# Altium footprint library con-cypressindustries.PCBLIB: 27 footprints (part 2 of 2)
Each footprint in its own frame and in the unit in brackets; x right, y up, seen from the top. Pads: shape width x height; smd on the part's side, far side on the other; paste and mask are expansions set on the pad; w line width, h text height; cw(c..) or ccw(c..) is an arc to the next point about the centre after c.
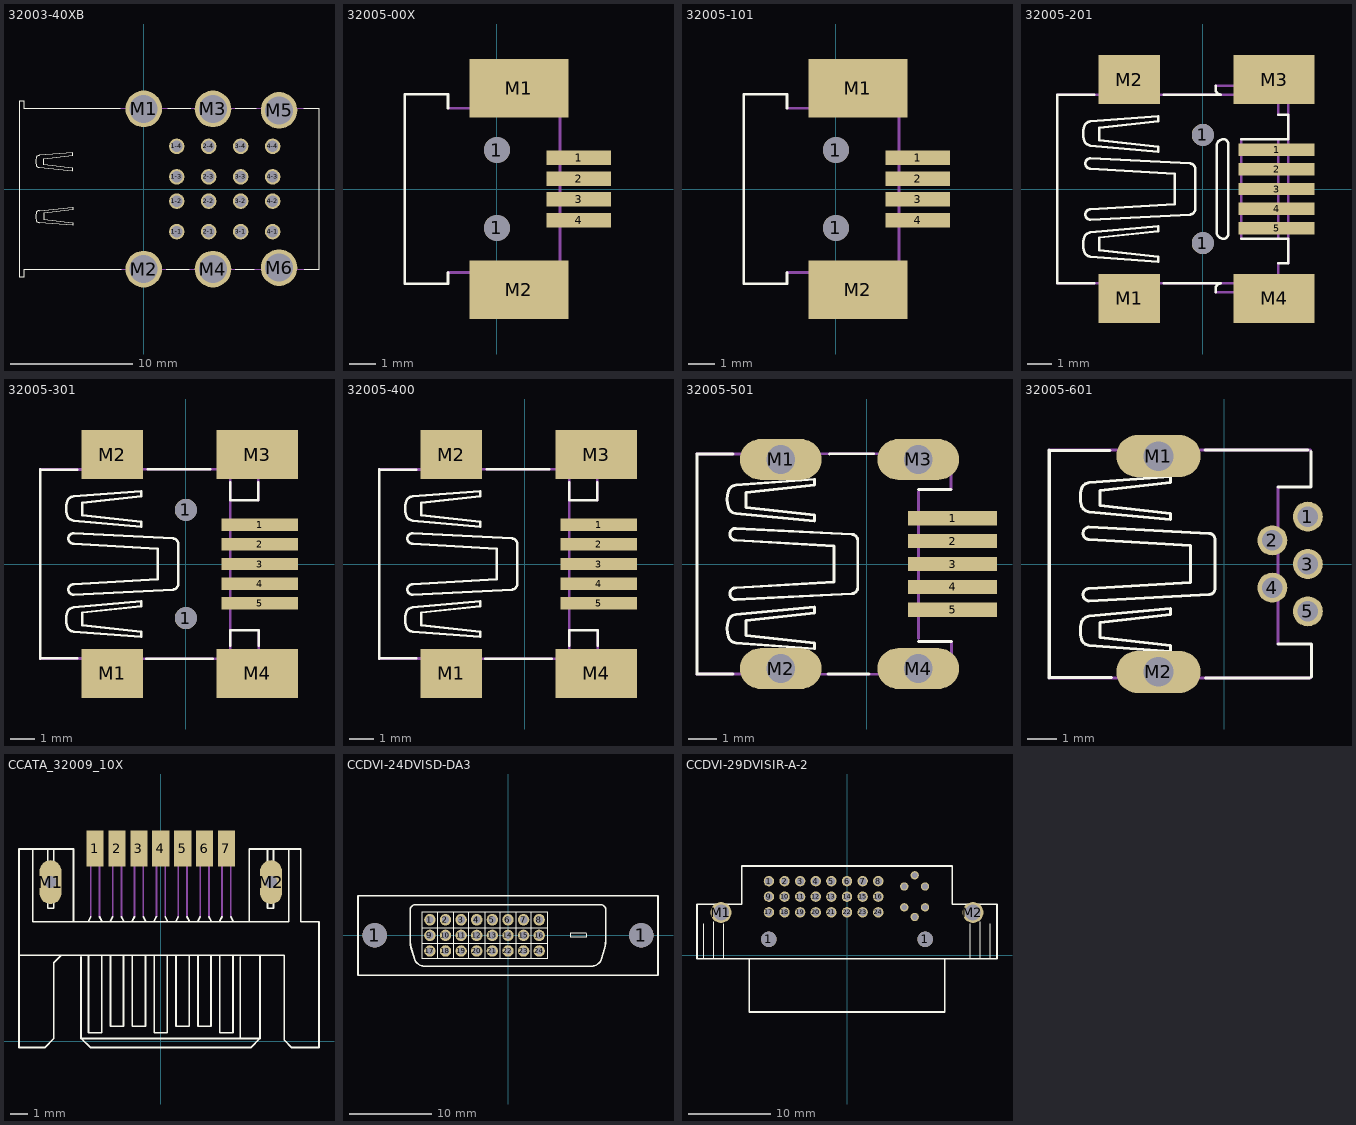
[diagram p1: the footprints below, top view; thin cyan lines are the x and y axes]

## 32003-40XB [mm]
pads (22):
  round 1.27 hole 0.92: 1-1(2.71,-3.5) 1-2(2.71,-1) 1-3(2.71,1) 1-4(2.71,3.5) 2-1(5.33,-3.5) 2-2(5.33,-1) 2-3(5.33,1) 2-4(5.33,3.5) 3-1(7.95,-3.5) 3-2(7.95,-1) 3-3(7.95,1) 3-4(7.95,3.5) 4-1(10.57,-3.5) 4-2(10.57,-1) 4-3(10.57,1) 4-4(10.57,3.5)
  round 3 hole 2.3: M1(0,6.57) M2(0,-6.57) M3(5.68,6.57) M4(5.68,-6.57) M5(11.1,6.45) M6(11.1,-6.45)
Top Overlay:
  lines w0.102: -1.925,6.6 -9.775,6.6 -9.775,7.2 -10.225,7.2 -10.225,-7.2 -9.775,-7.2 -9.775,-6.6 -1.825,-6.6 ; 1.85,-6.6 3.75,-6.6 ; 1.975,6.6 3.85,6.6 ; 7.5,-6.6 9.075,-6.6 ; 7.5,6.6 9.225,6.6 ; 13.125,6.6 14.375,6.6 14.375,-6.6 13.15,-6.6 ; -8.828,-2.544 ccw(c-8.546,-2.457) -8.568,-2.751 -5.817,-2.959 -5.817,-2.751 -8.205,-2.492 -8.205,-1.973 -5.817,-1.713 -5.817,-1.505 -8.568,-1.765 ccw(c-8.546,-2.059) -8.828,-1.973 ccw(c-7.897,-2.258) -8.828,-2.544 ; -8.828,1.973 cw(c-7.897,2.258) -8.828,2.544 cw(c-8.546,2.457) -8.568,2.751 -5.817,2.959 -5.817,2.751 -8.205,2.492 -8.205,1.973 -5.817,1.713 -5.817,1.505 -8.568,1.765 cw(c-8.546,2.059) -8.828,1.973
Mechanical 16:
  lines w0.102: -1.925,6.6 1.975,6.6 ; -1.825,-6.6 1.85,-6.6 ; 3.75,-6.6 7.5,-6.6 ; 3.85,6.6 7.5,6.6 ; 9.075,-6.6 13.15,-6.6 ; 9.225,6.6 13.125,6.6

## 32005-00X [mm]
pads (8):
  round 1 hole 1: 1(0,-1.5) 1(0,1.5)
  rect 2.5x0.55 smd: 1(3.15,1.2) 2(3.15,0.4) 3(3.15,-0.4) 4(3.15,-1.2)
  rect 3.8x2.25 smd: M1(0.85,3.875) M2(0.85,-3.875)
Top Overlay:
  lines w0.102: -1.886,-3.213 -1.886,-3.643 -3.546,-3.643 -3.546,3.643 -1.886,3.643 -1.886,3.113
Mechanical 16:
  region: 2.425,1.4 2.425,1 4,1 4,1.4
  region: 2.45,0.6 2.45,0.2 4,0.2 4,0.6
  region: 2.45,-0.2 2.45,-0.6 4,-0.6 4,-0.2
  region: 2.475,-1 2.475,-1.4 4,-1.4 4,-1
  lines w0.102: -1.832,-3.214 -0.466,-3.214 ; -1.832,3.107 -0.479,3.107 ; 0.23,-3.234 0.23,-3.911 1.463,-3.911 1.463,-3.234 ; 0.23,3.134 0.23,3.911 1.463,3.911 1.463,3.134 ; 2.429,-3.214 -0.466,-3.214 ; -0.479,3.107 -0.479,4.447 2.266,4.447 2.266,3.107 ; -0.479,3.107 2.266,3.107 ; -0.466,-3.214 -0.466,-4.447 2.266,-4.447 2.266,-3.207 2.427,-3.207 2.427,3.107 2.266,3.107

## 32005-101 [mm]
pads (8):
  round 1 hole 1: 1(0,-1.5) 1(0,1.5)
  rect 2.5x0.55 smd: 1(3.15,1.2) 2(3.15,0.4) 3(3.15,-0.4) 4(3.15,-1.2)
  rect 3.8x2.25 smd: M1(0.85,3.875) M2(0.85,-3.875)
Top Overlay:
  lines w0.102: -1.886,-3.213 -1.886,-3.643 -3.546,-3.643 -3.546,3.643 -1.886,3.643 -1.886,3.113
Mechanical 16:
  region: 2.425,1.4 2.425,1 4,1 4,1.4
  region: 2.45,0.6 2.45,0.2 4,0.2 4,0.6
  region: 2.45,-0.2 2.45,-0.6 4,-0.6 4,-0.2
  region: 2.475,-1 2.475,-1.4 4,-1.4 4,-1
  lines w0.102: -1.832,-3.214 -0.466,-3.214 ; -1.832,3.107 -0.479,3.107 ; 0.23,-3.234 0.23,-3.911 1.463,-3.911 1.463,-3.234 ; 0.23,3.134 0.23,3.911 1.463,3.911 1.463,3.134 ; 2.429,-3.214 -0.466,-3.214 ; -0.479,3.107 -0.479,4.447 2.266,4.447 2.266,3.107 ; -0.479,3.107 2.266,3.107 ; -0.466,-3.214 -0.466,-4.447 2.266,-4.447 2.266,-3.207 2.427,-3.207 2.427,3.107 2.266,3.107

## 32005-201 [mm]
pads (11):
  round 0.9 hole 0.9: 1(0,-2.2) 1(0,2.2)
  rect 3.1x0.5 smd: 1(3,1.6) 2(3,0.8) 3(3,0) 4(3,-0.8) 5(3,-1.6)
  rect 2.5x2 smd: M1(-3,-4.45) M2(-3,4.45)
  rect 3.3x2 smd: M3(2.9,4.45) M4(2.9,-4.45)
Top Overlay:
  lines w0.102: -4.415,-3.841 -5.918,-3.841 ; -4.415,3.841 -5.918,3.841 -5.918,-3.841 ; -1.583,-3.841 0.727,-3.841 ccw(c0.727,-4.049) 0.519,-4.049 0.519,-4.205 ; -1.582,3.841 0.727,3.841 cw(c0.727,4.049) 0.519,4.049 0.519,4.205 ; 1.557,-2.025 3.426,-2.025 ; 1.557,2.025 3.426,2.025 ; 3.063,-3.011 3.426,-3.011 ; 3.063,3.011 3.426,3.011 ; 3.478,-3.011 3.478,-2.024 ; 3.478,2.025 3.478,3.011 ; -5.918,-3.841 -5.918,-3.841 ; 0.831,2.025 cw(c0.831,1.817) 1.038,1.817 1.038,-1.817 cw(c0.831,-1.817) 0.831,-2.024 cw(c0.831,-1.765) 0.571,-1.765 0.571,1.765 cw(c0.831,1.765) 0.83,2.025 ; 0.831,2.025 0.83,2.025 ; -4.828,-2.544 ccw(c-4.546,-2.457) -4.568,-2.751 -1.817,-2.959 -1.817,-2.751 -4.205,-2.492 -4.205,-1.973 -1.817,-1.713 -1.817,-1.505 -4.568,-1.765 ccw(c-4.546,-2.059) -4.828,-1.973 ccw(c-3.897,-2.258) -4.828,-2.544 ; -4.828,1.973 cw(c-3.897,2.258) -4.828,2.544 cw(c-4.546,2.457) -4.568,2.751 -1.817,2.959 -1.817,2.751 -4.205,2.492 -4.205,1.973 -1.817,1.713 -1.817,1.505 -4.568,1.765 cw(c-4.546,2.059) -4.828,1.973 ; -4.776,-1.038 ccw(c-4.569,-1.038) -4.568,-1.246 -0.519,-1.038 ccw(c-0.531,-0.818) -0.312,-0.83 -0.312,0.831 ccw(c-0.531,0.819) -0.519,1.038 -4.568,1.246 ccw(c-4.569,1.038) -4.776,1.038 -4.776,1.038 ccw(c-4.569,1.038) -4.568,0.831 -1.142,0.623 -1.142,-0.623 -4.568,-0.83 ccw(c-4.568,-1.038) -4.776,-1.038
Mechanical 16:
  lines w0.102: -5.918,-3.841 -3.688,-3.841 -3.688,-4.88 -3.325,-4.88 -3.325,-4.464 -2.702,-4.464 -2.702,-4.88 -2.309,-4.88 -2.309,-3.841 2.803,-3.841 ccw(c2.803,-3.582) 3.063,-3.582 3.063,-3.011 ; -5.918,3.841 -3.688,3.841 -3.688,4.88 -3.325,4.88 -3.325,4.465 -2.702,4.465 -2.702,4.88 -2.309,4.88 -2.309,3.841 0.726,3.841 2.803,3.841 cw(c2.803,3.582) 3.063,3.582 3.063,3.011 ; 0.519,-4.205 2.907,-4.205 ccw(c2.907,-3.634) 3.478,-3.634 ; 0.519,4.205 2.907,4.205 cw(c2.907,3.634) 3.478,3.634 3.478,-3.011 ; 1.557,-1.973 1.557,2.025 ; 1.713,-4.257 1.713,-4.88 2.128,-4.88 2.128,-4.464 2.647,-4.464 2.647,-4.88 3.063,-4.88 3.063,-4.257 ; 1.713,4.257 1.713,4.88 2.128,4.88 2.128,4.465 2.647,4.465 2.647,4.88 3.063,4.88 3.063,4.257 ; 3.063,-1.973 3.063,1.973

## 32005-301 [mm]
pads (11):
  round 0.9 hole 0.9: 1(0,-2.2) 1(0,2.2)
  rect 3.1x0.5 smd: 1(3,1.6) 2(3,0.8) 3(3,0) 4(3,-0.8) 5(3,-1.6)
  rect 2.5x2 smd: M1(-3,-4.45) M2(-3,4.45)
  rect 3.3x2 smd: M3(2.9,4.45) M4(2.9,-4.45)
Top Overlay:
  lines w0.102: -5.923,-3.847 -5.923,3.847 ; -4.415,-3.841 -5.918,-3.841 ; -4.415,3.841 -5.918,3.841 -5.918,-3.841 ; -1.603,-3.847 1.084,-3.847 ; -1.552,3.847 0.983,3.847 ; 1.81,-3.324 1.81,-2.7 2.957,-2.7 2.957,-3.332 ; 1.81,3.324 1.81,2.599 2.94,2.599 2.94,3.324 ; -5.918,-3.841 -5.918,-3.841 ; -4.828,-2.544 ccw(c-4.546,-2.457) -4.568,-2.751 -1.817,-2.959 -1.817,-2.751 -4.205,-2.492 -4.205,-1.973 -1.817,-1.713 -1.817,-1.505 -4.568,-1.765 ccw(c-4.546,-2.059) -4.828,-1.973 ccw(c-3.897,-2.258) -4.828,-2.544 ; -4.828,1.973 cw(c-3.897,2.258) -4.828,2.544 cw(c-4.546,2.457) -4.568,2.751 -1.817,2.959 -1.817,2.751 -4.205,2.492 -4.205,1.973 -1.817,1.713 -1.817,1.505 -4.568,1.765 cw(c-4.546,2.059) -4.828,1.973 ; -4.776,-1.038 ccw(c-4.569,-1.038) -4.568,-1.246 -0.519,-1.038 ccw(c-0.531,-0.818) -0.312,-0.83 -0.312,0.831 ccw(c-0.531,0.819) -0.519,1.038 -4.568,1.246 ccw(c-4.569,1.038) -4.776,1.038 -4.776,1.038 ccw(c-4.569,1.038) -4.568,0.831 -1.142,0.623 -1.142,-0.623 -4.568,-0.83 ccw(c-4.568,-1.038) -4.776,-1.038
Mechanical 16:
  lines w0.102: -5.923,-3.847 3.16,-3.847 ; -5.923,3.847 3.16,3.847 ; -5.918,-3.841 -3.688,-3.841 -3.688,-4.88 -3.325,-4.88 -3.325,-4.464 -2.702,-4.464 -2.702,-4.88 -2.309,-4.88 -2.309,-3.841 ; -5.918,3.841 -3.688,3.841 -3.688,4.88 -3.325,4.88 -3.325,4.465 -2.702,4.465 -2.702,4.88 -2.309,4.88 -2.309,3.841 ; 1.713,-3.885 1.713,-4.88 2.128,-4.88 2.128,-4.464 2.647,-4.464 2.647,-4.88 3.163,-4.88 3.163,-3.852 ; 1.713,3.886 1.713,4.88 2.128,4.88 2.128,4.465 2.647,4.465 2.647,4.88 3.164,4.88 3.164,3.852 ; 1.81,-3.847 1.81,3.78 ; 2.94,2.599 2.94,3.797 ; 2.957,-3.822 2.957,-2.7

## 32005-400 [mm]
pads (9):
  rect 3.1x0.5 smd: 1(3,1.6) 2(3,0.8) 3(3,0) 4(3,-0.8) 5(3,-1.6)
  rect 2.5x2 smd: M1(-3,-4.45) M2(-3,4.45)
  rect 3.3x2 smd: M3(2.9,4.45) M4(2.9,-4.45)
Top Overlay:
  lines w0.102: -5.923,-3.847 -5.923,3.847 ; -4.415,-3.841 -5.918,-3.841 ; -4.415,3.841 -5.918,3.841 -5.918,-3.841 ; -1.603,-3.847 1.084,-3.847 ; -1.552,3.847 0.983,3.847 ; 1.81,-3.324 1.81,-2.7 2.957,-2.7 2.957,-3.332 ; 1.81,3.324 1.81,2.599 2.94,2.599 2.94,3.324 ; -5.918,-3.841 -5.918,-3.841 ; -4.828,-2.544 ccw(c-4.546,-2.457) -4.568,-2.751 -1.817,-2.959 -1.817,-2.751 -4.205,-2.492 -4.205,-1.973 -1.817,-1.713 -1.817,-1.505 -4.568,-1.765 ccw(c-4.546,-2.059) -4.828,-1.973 ccw(c-3.897,-2.258) -4.828,-2.544 ; -4.828,1.973 cw(c-3.897,2.258) -4.828,2.544 cw(c-4.546,2.457) -4.568,2.751 -1.817,2.959 -1.817,2.751 -4.205,2.492 -4.205,1.973 -1.817,1.713 -1.817,1.505 -4.568,1.765 cw(c-4.546,2.059) -4.828,1.973 ; -4.776,-1.038 ccw(c-4.569,-1.038) -4.568,-1.246 -0.519,-1.038 ccw(c-0.531,-0.818) -0.312,-0.83 -0.312,0.831 ccw(c-0.531,0.819) -0.519,1.038 -4.568,1.246 ccw(c-4.569,1.038) -4.776,1.038 -4.776,1.038 ccw(c-4.569,1.038) -4.568,0.831 -1.142,0.623 -1.142,-0.623 -4.568,-0.83 ccw(c-4.568,-1.038) -4.776,-1.038
Mechanical 16:
  lines w0.102: -5.923,-3.847 3.16,-3.847 ; -5.923,3.847 3.16,3.847 ; -5.918,-3.841 -3.688,-3.841 -3.688,-4.88 -3.325,-4.88 -3.325,-4.464 -2.702,-4.464 -2.702,-4.88 -2.309,-4.88 -2.309,-3.841 ; -5.918,3.841 -3.688,3.841 -3.688,4.88 -3.325,4.88 -3.325,4.465 -2.702,4.465 -2.702,4.88 -2.309,4.88 -2.309,3.841 ; 1.713,-3.885 1.713,-4.88 2.128,-4.88 2.128,-4.464 2.647,-4.464 2.647,-4.88 3.163,-4.88 3.163,-3.852 ; 1.713,3.886 1.713,4.88 2.128,4.88 2.128,4.465 2.647,4.465 2.647,4.88 3.164,4.88 3.164,3.852 ; 1.81,-3.847 1.81,3.78 ; 2.94,2.599 2.94,3.797 ; 2.957,-3.822 2.957,-2.7

## 32005-501 [mm]
pads (9):
  rect 3.1x0.5 smd: 1(3,1.6) 2(3,0.8) 3(3,0) 4(3,-0.8) 5(3,-1.6)
  oval 2.845x1.422 hole 1: M1(-3,3.65) M2(-3,-3.65) M3(1.8,3.65) M4(1.8,-3.65)
Top Overlay:
  lines w0.102: -5.923,-3.847 -5.923,3.847 ; -4.665,-3.841 -5.918,-3.841 ; -4.665,3.841 -5.918,3.841 -5.918,-3.841 ; -1.353,-3.847 0.084,-3.847 ; -1.302,3.847 0.233,3.847 ; 1.81,-2.7 2.957,-2.7 ; 1.81,2.599 2.94,2.599 ; -5.918,-3.841 -5.918,-3.841 ; -4.828,-2.544 ccw(c-4.546,-2.457) -4.568,-2.751 -1.817,-2.959 -1.817,-2.751 -4.205,-2.492 -4.205,-1.973 -1.817,-1.713 -1.817,-1.505 -4.568,-1.765 ccw(c-4.546,-2.059) -4.828,-1.973 ccw(c-3.897,-2.258) -4.828,-2.544 ; -4.828,1.973 cw(c-3.897,2.258) -4.828,2.544 cw(c-4.546,2.457) -4.568,2.751 -1.817,2.959 -1.817,2.751 -4.205,2.492 -4.205,1.973 -1.817,1.713 -1.817,1.505 -4.568,1.765 cw(c-4.546,2.059) -4.828,1.973 ; -4.776,-1.038 ccw(c-4.569,-1.038) -4.568,-1.246 -0.519,-1.038 ccw(c-0.531,-0.818) -0.312,-0.83 -0.312,0.831 ccw(c-0.531,0.819) -0.519,1.038 -4.568,1.246 ccw(c-4.569,1.038) -4.776,1.038 -4.776,1.038 ccw(c-4.569,1.038) -4.568,0.831 -1.142,0.623 -1.142,-0.623 -4.568,-0.83 ccw(c-4.568,-1.038) -4.776,-1.038
Mechanical 11:
  lines w0: -4,-3.65 ccw(c-3.5,-3.65) -3.5,-4.15 -2.5,-4.15 ccw(c-2.5,-3.65) -2,-3.65 ccw(c-2.5,-3.65) -2.5,-3.15 -3.5,-3.15 ccw(c-3.5,-3.65) -4,-3.65 ; -4,3.65 ccw(c-3.5,3.65) -3.5,3.15 -2.5,3.15 ccw(c-2.5,3.65) -2,3.65 ccw(c-2.5,3.65) -2.5,4.15 -3.5,4.15 ccw(c-3.5,3.65) -4,3.65 ; 0.8,-3.65 ccw(c1.3,-3.65) 1.3,-4.15 2.3,-4.15 ccw(c2.3,-3.65) 2.8,-3.65 ccw(c2.3,-3.65) 2.3,-3.15 1.3,-3.15 ccw(c1.3,-3.65) 0.8,-3.65 ; 0.8,3.65 ccw(c1.3,3.65) 1.3,3.15 2.3,3.15 ccw(c2.3,3.65) 2.8,3.65 ccw(c2.3,3.65) 2.3,4.15 1.3,4.15 ccw(c1.3,3.65) 0.8,3.65
Mechanical 16:
  lines w0.102: -5.923,-3.847 2.91,-3.847 ; -5.923,3.847 2.91,3.847 ; -5.918,-3.841 -3.688,-3.841 ; -5.918,3.841 -3.688,3.841 ; 1.81,-2.597 1.81,2.53 ; 2.94,2.599 2.94,3.797 ; 2.957,-3.822 2.957,-2.7

## 32005-601 [mil]
pads (7):
  round 40 hole 27.56: 1(111.22,62.99) 2(63.98,31.5) 3(111.22,0) 4(63.98,-31.5) 5(111.22,-62.99)
  oval 112x56 hole 39.37: M1(-87.6,143.7) M2(-87.6,-143.7)
Top Overlay:
  lines w4: -233.18,-151.47 -233.18,151.47 ; -152.15,151.24 -233,151.24 -233,-151.24 ; -150.18,-151.24 -233,-151.24 ; -25.68,151.46 111.54,151.47 ; -24.73,-151.46 113.55,-151.46 ; 71.25,-106.29 116.43,-106.29 116.43,-150.46 ; 71.25,102.31 115.76,102.31 115.76,149.48 ; -233,-151.24 -233,-151.24 ; -190.08,-100.14 ccw(c-178.98,-96.74) -179.86,-108.32 -71.54,-116.49 -71.54,-108.32 -165.56,-98.1 -165.56,-77.66 -71.54,-67.44 -71.54,-59.26 -179.86,-69.48 ccw(c-178.98,-81.06) -190.08,-77.66 ccw(c-153.43,-88.9) -190.08,-100.14 ; -190.08,77.67 cw(c-153.43,88.91) -190.08,100.15 cw(c-178.99,96.75) -179.86,108.32 -71.54,116.5 -71.54,108.32 -165.56,98.11 -165.56,77.67 -71.54,67.45 -71.54,59.27 -179.86,69.49 cw(c-178.98,81.07) -190.08,77.67 ; -188.04,-40.87 ccw(c-179.87,-40.87) -179.86,-49.04 -20.44,-40.87 ccw(c-20.92,-32.22) -12.27,-32.69 -12.27,32.7 ccw(c-20.92,32.23) -20.44,40.88 -179.86,49.05 ccw(c-179.87,40.88) -188.04,40.88 -188.04,40.87 ccw(c-179.87,40.88) -179.86,32.7 -44.97,24.53 -44.97,-24.52 -179.86,-32.69 ccw(c-179.86,-40.87) -188.04,-40.87
Mechanical 11:
  lines w0: -126.97,-143.7 ccw(c-107.28,-143.7) -107.28,-163.39 -67.91,-163.39 ccw(c-67.92,-143.71) -48.23,-143.7 ccw(c-63.98,-139.76) -60.04,-124.02 -107.28,-124.02 ccw(c-107.28,-143.71) -126.97,-143.7 ; -126.97,143.7 ccw(c-107.28,143.71) -107.28,124.02 -67.91,124.02 ccw(c-67.91,143.7) -48.23,143.7 ccw(c-67.92,143.71) -67.91,163.39 -107.28,163.39 ccw(c-107.28,143.7) -126.97,143.7
Mechanical 16:
  lines w4: -233.18,-151.47 114.56,-151.47 ; -233.18,151.47 114.56,151.47 ; -233,-151.24 -153.07,-151.24 ; -233,151.24 -153.07,151.24 ; 71.25,-106.19 71.25,102.55

## CCATA_32009_10X [mm]
pads (9):
  rect 1x2.1 smd: 1(-3.81,11.2) 2(-2.54,11.2) 3(-1.27,11.2) 4(0,11.2) 5(1.27,11.2) 6(2.54,11.2) 7(3.81,11.2)
  oval 1.27x2.54 hole 0.7: M1(-6.4,9.25) M2(6.4,9.25)
Top Overlay:
  lines w0.102: -6.558,11.08 -6.558,7.739 -6.206,7.739 -6.206,11.08 ; -5.766,5.013 -6.206,4.573 -6.206,0.176 -6.734,-0.352 -8.229,-0.352 -8.229,5.013 ; -5.063,6.947 -5.063,11.168 -7.437,11.168 ; -4.623,4.925 -4.623,0.176 ; -4.191,4.953 -4.191,0.508 -3.429,0.508 -3.429,4.953 ; -4.191,6.985 -4.064,7.239 ; -4.098,-0.339 -4.623,0.176 ; -4.075,-0.35 5.226,-0.352 5.754,0.176 ; -3.556,7.239 -3.429,6.985 ; -2.921,4.953 -2.921,0.889 -2.159,0.889 -2.159,4.953 ; -2.921,6.985 -2.794,7.239 ; -2.286,7.239 -2.159,6.985 ; -1.651,4.953 -1.651,0.889 -0.889,0.889 -0.889,4.953 ; -1.651,6.985 -1.524,7.239 ; -1.016,7.239 -0.889,6.985 ; -0.381,4.953 -0.381,0.508 0.381,0.508 0.381,4.953 ; -0.381,6.985 -0.254,7.239 ; 0.254,7.239 0.381,6.985 ; 0.889,4.953 0.889,0.889 1.651,0.889 1.651,4.953 ; 0.889,6.985 1.016,7.239 ; 1.524,7.239 1.651,6.985 ; 2.159,4.953 2.159,0.889 2.921,0.889 2.921,4.953 ; 2.159,6.985 2.286,7.239 ; 2.794,7.239 2.921,6.985 ; 3.429,4.953 3.429,0.508 4.191,0.508 4.191,4.953 ; 3.429,6.985 3.556,7.239 ; 4.064,7.239 4.191,6.985 ; 4.611,4.925 4.611,0.176 ; 5.666,0.176 4.611,0.176 ; 6.194,11.08 6.194,7.739 6.545,7.739 6.545,11.168 ; 7.425,11.168 7.425,6.947 5.138,6.947 ; -8.229,5.013 -8.229,11.168 -7.437,11.168 ; -8.229,5.013 5.754,5.013 ; -7.437,11.168 -7.437,6.947 5.138,6.947 ; -4.623,0.176 4.611,0.176 ; 5.138,6.947 5.138,11.168 6.545,11.168 ; 5.754,0.176 5.754,5.013 ; 5.754,0.176 5.754,0.176 ; 5.754,5.013 7.161,5.013 7.161,0.088 7.601,-0.352 9.184,-0.352 9.184,6.947 8.128,6.947 8.128,11.168 6.545,11.168
Mechanical 11:
  lines w0: -6.75,8.5 ccw(c-6.4,8.5) -6.4,8.15 ccw(c-6.4,8.5) -6.05,8.5 -6.05,10 ccw(c-6.4,10) -6.4,10.35 ccw(c-6.4,10) -6.75,10 -6.75,8.5 ; 6.05,8.5 ccw(c6.4,8.5) 6.4,8.15 ccw(c6.4,8.5) 6.75,8.5 6.75,10 ccw(c6.4,10) 6.4,10.35 ccw(c6.4,10) 6.05,10 6.05,8.5
Mechanical 16:
  lines w0.102: -4.064,7.239 -4.064,11.176 -3.556,11.176 -3.556,7.239 ; -2.794,7.239 -2.794,11.176 -2.286,11.176 -2.286,7.239 ; -1.524,7.239 -1.524,11.176 -1.016,11.176 -1.016,7.239 ; -0.254,7.239 -0.254,11.176 0.254,11.176 0.254,7.239 ; 1.016,7.239 1.016,11.176 1.524,11.176 1.524,7.239 ; 2.286,7.239 2.286,11.176 2.794,11.176 2.794,7.239 ; 3.556,7.239 3.556,11.176 4.064,11.176 4.064,7.239

## CCDVI-24DVISD-DA3 [mm]
pads (26):
  round 3 hole 3: 1(-16.26,0) 1(16.26,0)
  round 1.4 hole 0.9: 1(-9.53,1.905) 2(-7.625,1.905) 3(-5.72,1.905) 4(-3.815,1.905) 5(-1.91,1.905) 6(-0.005,1.905) 7(1.9,1.905) 8(3.805,1.905) 9(-9.53,0) 10(-7.625,0) 11(-5.72,0) 12(-3.815,0) 13(-1.91,0) 14(-0.005,0) 15(1.9,0) 16(3.805,0) 17(-9.53,-1.905) 18(-7.625,-1.905) 19(-5.72,-1.905) 20(-3.815,-1.905) 21(-1.91,-1.905) 22(-0.005,-1.905) 23(1.9,-1.905) 24(3.805,-1.905)
Top Overlay:
  lines w0.102: 7.62,-0.25 9.525,-0.25 ; 7.62,-0.202 7.62,0.202 ; 7.62,0.25 9.525,0.25 ; 9.525,-0.202 9.525,0.202 ; -10.477,-0.953 -10.477,-2.857 -8.572,-2.857 ; -10.477,-0.953 -10.477,0.953 ; -10.477,-0.953 4.763,-0.953 ; -10.477,0.953 -10.477,2.857 -8.572,2.857 ; -10.477,0.953 4.763,0.953 ; -8.572,-2.857 -6.667,-2.857 ; -8.572,-2.857 -8.572,2.857 ; -8.572,2.857 -6.667,2.857 ; -6.667,-2.857 -4.763,-2.857 ; -6.667,-2.857 -6.667,2.857 ; -6.667,2.857 -4.763,2.857 ; -4.763,-2.857 -2.857,-2.857 ; -4.763,-2.857 -4.763,2.857 ; -4.763,2.857 -2.857,2.857 ; -2.857,-2.857 -0.953,-2.857 ; -2.857,-2.857 -2.857,2.857 ; -2.857,2.857 -0.953,2.857 ; -0.953,-2.857 0.953,-2.857 ; -0.953,-2.857 -0.953,2.857 ; -0.953,2.857 0.953,2.857 ; 0.953,-2.857 2.857,-2.857 ; 0.953,-2.857 0.953,2.857 ; 0.953,2.857 2.857,2.857 ; 2.857,-2.857 4.763,-2.857 4.763,-0.953 ; 2.857,-2.857 2.857,2.857 ; 2.857,2.857 4.763,2.857 4.763,0.953 ; 4.763,-0.953 4.763,0.953
  lines w0.203: -18.3,-4.85 18.3,-4.85 18.3,4.85 -18.3,4.85 -18.3,-4.85 ; -11.925,-0.39 ccw(c-5.792,-0.444) -11.834,-1.497 -11.379,-2.952 ccw(c-10.2,-2.48) -10.2,-3.75 10.2,-3.75 ccw(c10.2,-2.48) 11.379,-2.952 11.787,-1.542 ccw(c8.075,-0.504) 11.925,-0.33 11.925,3.115 ccw(c11.29,3.115) 11.29,3.75 -11.29,3.75 ccw(c-11.29,3.115) -11.925,3.115 -11.925,-0.39

## CCDVI-29DVISIR-A-2 [mil]
pads (34):
  round 74.8 hole 74.8: 1(-375,75.98) 1(375,75.98)
  round 50 hole 35.43: 1(-375,355.91) 2(-300,355.91) 3(-225,355.91) 4(-150,355.91) 5(-75,355.91) 6(0,355.91) 7(75,355.91) 8(150,355.91) 9(-375,280.91) 10(-300,280.91) 11(-225,280.91) 12(-150,280.91) 13(-75,280.91) 14(0,280.91) 15(75,280.91) 16(150,280.91) 17(-375,205.91) 18(-300,205.91) 19(-225,205.91) 20(-150,205.91) 21(-75,205.91) 22(0,205.91) 23(75,205.91) 24(150,205.91)
  round 40 hole 27.56: C1(275,330) C2(375,330) C3(275,230) C4(375,230) C5.1(325,383.66) C5.2(325,183.66)
  round 100 hole 74.8: M1(-604.92,204.92) M2(604.92,204.92)
Top Overlay:
  lines w2.5: -687.2,-12.01 -687.2,151.77 ; -639.96,-12.01 -639.96,161.61 ; -592.72,-12.01 -592.72,151.77 ; 592.72,-12.01 592.72,151.77 ; 639.96,-12.01 639.96,161.61 ; 687.2,-12.01 687.2,151.77
  lines w8: -469.49,-16.73 -720.47,-16.73 -720.47,245.08 -504.92,245.08 -504.92,428.15 504.92,428.15 504.92,245.08 720.47,245.08 720.47,-16.73 469.49,-16.73 ; -469.49,-16.73 -469.49,-272.64 469.49,-272.64 469.49,-16.73 ; -469.49,-16.73 469.49,-16.73